# Altium integrated library FixingHoles.IntLib: 1 symbol
Pins are listed as number, name and electrical type; pins without a type are passive.

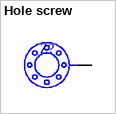
[diagram p0: symbol Hole screw]

## Hole screw
designator Z?  (value not drawn)
fixing hole for screw
pins: 1